# Altium integrated library Microchip PIC18.IntLib: 1897 symbols (part 29 of 110)
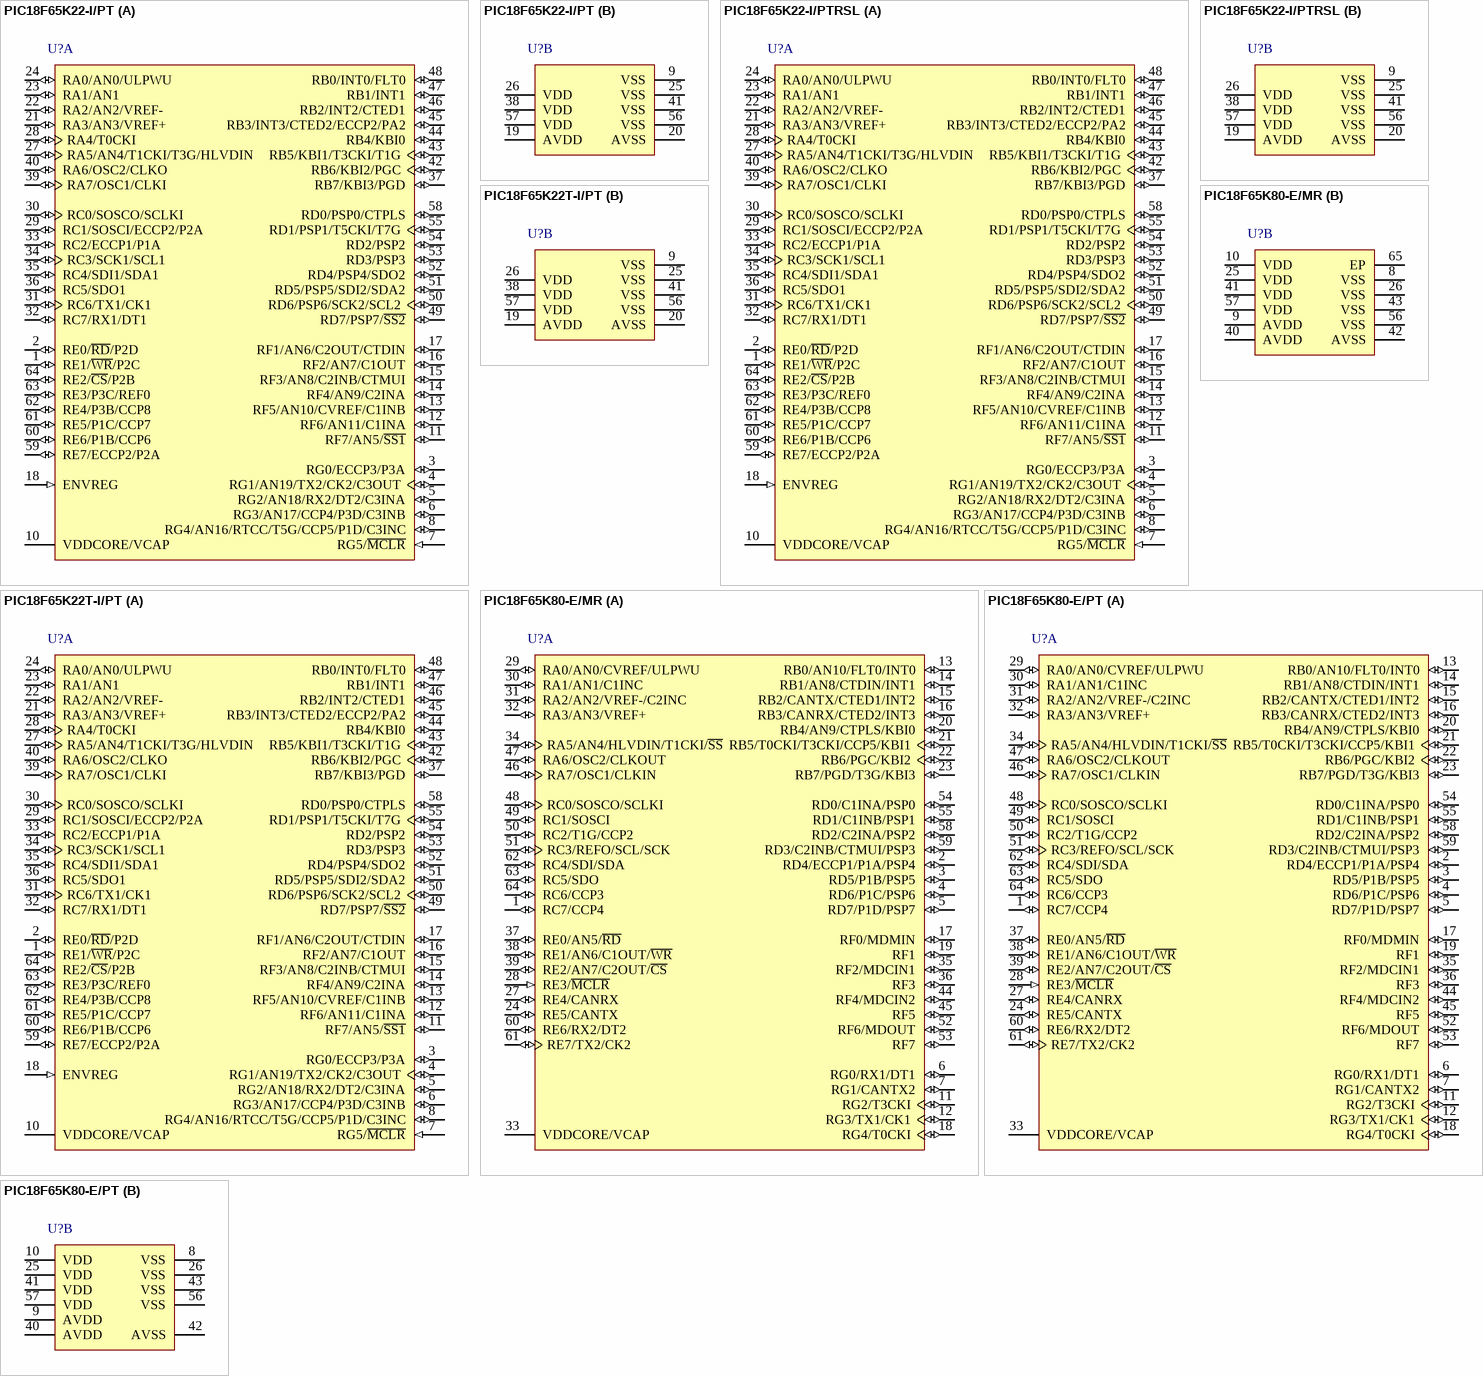
[diagram p237: symbols PIC18F65K22-I/PT to PIC18F65K80-E/PT]

## PIC18F65K80-E/MR
designator U?
Enhanced Flash Microcontroller with ECAN(TM) and nanoWatt XLP Technology, 64 MHz, 54 I/O, -40 to 125 degC, 64-pin QFN (MR64), Tube; Manufacturer: Microchip; PartNumber: PIC18F65K80-E/MR; # of A/D Channels: 11; Digital Communication: 2 -A/E/USART, 0 -MSSP(SPI/I2C), 1 -SSP(SPI/I2C); EEPROM Data Memory (bytes): 1024; I/O Pins: 54; Internal Oscillator: 16 MHz, 31 kHz; Max. CPU Speed MHz: 64; Operation Voltage Range: 1.8V - 5.5V; Program Memory KBytes: 32; Program Memory KWords: 16; RAM: 3648; Timers: 2 - 8-bit, 3 - 16-bit; DatasheetVersion: Rev. F; PackageVersion: C04-213A, 04/2013; PackageReference: QFN-MR64; PackageDescription: 64-Lead Plastic Quad Flat, No Lead Package, Body 9 x 9 mm, Pitch 0.5 mm; Supplier 1: Digi-Key; Supplier Part Number 1: PIC18F65K80-E/MR-ND; Supplier 2: Mouser; Supplier Part Number 2: 579-PIC18F65K80-E/MR; Memory Type: Flash; Packing: TUBE; RoHS: TRUE; Mounting Technology: Surface Mount; ComponentLink1Description: Datasheet; ComponentLink1URL: http://ww1.microchip.com/downloads/en/DeviceDoc/39977f.pdf; ComponentLink2Description: Package Specification; ComponentLink2URL: http://www.microchip.com/stellent/groups/techpub_sg/documents/packagingspec/en012702.pdf; ComponentLink3Description: URL Link1; ComponentLink3URL: Product URL:http://www.microchip.com/datasheet/PIC18F65K80
footprint MCHP-QFN-MR64-7700X7700TP_N (QFN, 64-Leads, Body 9x9mm, Pitch 0.5mm, Thermal Pad 7.7x7.7mm, IPC Medium Density)
footprint MCHP-QFN-MR64-7700X7700TP_L (QFN, 64-Leads, Body 9x9mm, Pitch 0.5mm, Thermal Pad 7.7x7.7mm, IPC High Density)
footprint MCHP-QFN-MR64-7700X7700TP_M (QFN, 64-Leads, Body 9x9mm, Pitch 0.5mm, Thermal Pad 7.7x7.7mm, IPC Low Density)
part A pins: 1 RC7/CCP4 (io), 2 RD4/ECCP1/P1A/PSP4 (io), 3 RD5/P1B/PSP5 (io), 4 RD6/P1C/PSP6 (io), 5 RD7/P1D/PSP7 (io), 6 RG0/RX1/DT1 (io), 7 RG1/CANTX2 (io), 11 RG2/T3CKI (io), 12 RG3/TX1/CK1 (io), 13 RB0/AN10/FLT0/INT0 (io), 14 RB1/AN8/CTDIN/INT1 (io), 15 RB2/CANTX/CTED1/INT2 (io), 16 RB3/CANRX/CTED2/INT3 (io), 17 RF0/MDMIN (io), 18 RG4/T0CKI (io), 19 RF1 (io) "PORTF is a bidirectional I/O port. Digital I/O.", 20 RB4/AN9/CTPLS/KBI0 (io), 21 RB5/T0CKI/T3CKI/CCP5/KBI1 (io), 22 RB6/PGC/KBI2 (io), 23 RB7/PGD/T3G/KBI3 (io), 24 RE5/CANTX (io), 27 RE4/CANRX (io), 28 RE3/~{MCLR} (in), 29 RA0/AN0/CVREF/ULPWU (io), 30 RA1/AN1/C1INC (io), 31 RA2/AN2/VREF-/C2INC (io), 32 RA3/AN3/VREF+ (io), 33 VDDCORE/VCAP (power), 34 RA5/AN4/HLVDIN/T1CKI/~{SS} (io), 35 RF2/MDCIN1 (io), 36 RF3 (io) "PORTF is a bidirectional I/O port. Digital I/O.", 37 RE0/AN5/~{RD} (io), 38 RE1/AN6/C1OUT/~{WR} (io), 39 RE2/AN7/C2OUT/~{CS} (io), 44 RF4/MDCIN2 (io), 45 RF5 (io) "PORTF is a bidirectional I/O port. Digital I/O.", 46 RA7/OSC1/CLKIN (io), 47 RA6/OSC2/CLKOUT (io), 48 RC0/SOSCO/SCLKI (io), 49 RC1/SOSCI (io), 50 RC2/T1G/CCP2 (io), 51 RC3/REFO/SCL/SCK (io), 52 RF6/MDOUT (io), 53 RF7 (io) "PORTF is a bidirectional I/O port. Digital I/O.", 54 RD0/C1INA/PSP0 (io), 55 RD1/C1INB/PSP1 (io), 58 RD2/C2INA/PSP2 (io), 59 RD3/C2INB/CTMUI/PSP3 (io), 60 RE6/RX2/DT2 (io), 61 RE7/TX2/CK2 (io), 62 RC4/SDI/SDA (io), 63 RC5/SDO (io), 64 RC6/CCP3 (io)
part B pins: 8 VSS (power) "Ground reference for logic and I/O pins.", 9 AVDD (power) "Positive supply for analog modules.", 10 VDD (power) "Positive supply for logic and I/O pins.", 25 VDD (power) "Positive supply for logic and I/O pins.", 26 VSS (power) "Ground reference for logic and I/O pins.", 40 AVDD (power) "Positive supply for analog modules.", 41 VDD (power) "Positive supply for logic and I/O pins.", 42 AVSS (power) "Ground reference for analog modules.", 43 VSS (power) "Ground reference for logic and I/O pins.", 56 VSS (power) "Ground reference for logic and I/O pins.", 57 VDD (power) "Positive supply for logic and I/O pins.", 65 EP (power)

## PIC18F65K80-E/PT
designator U?
Enhanced Flash Microcontroller with ECAN(TM) and nanoWatt XLP Technology, 64 MHz, 54 I/O, -40 to 125 degC, 64-pin TQFP (PT64), Tray; Manufacturer: Microchip; PartNumber: PIC18F65K80-E/PT; # of A/D Channels: 11; Digital Communication: 2 -A/E/USART, 0 -MSSP(SPI/I2C), 1 -SSP(SPI/I2C); EEPROM Data Memory (bytes): 1024; I/O Pins: 54; Internal Oscillator: 16 MHz, 31 kHz; Max. CPU Speed MHz: 64; Operation Voltage Range: 1.8V - 5V; Program Memory KBytes: 32; Program Memory KWords: 16; RAM: 3648; Timers: 2 - 8-bit, 3 - 16-bit; DatasheetVersion: Rev. F; PackageVersion: C04-085B, 12/2012; PackageReference: TQFP-PT64; PackageDescription: 64-Lead Plastic Thin Quad FlatPack, 10 x 10 mm Body, 0.5 mm Pitch; Supplier 1: Digi-Key; Supplier Part Number 1: PIC18F65K80-E/PT-ND; Supplier 2: Mouser; Supplier Part Number 2: 579-PIC18F65K80-E/PT; Memory Type: Flash; Packing: TRAY; RoHS: TRUE; Mounting Technology: Surface Mount; ComponentLink1Description: Datasheet; ComponentLink1URL: http://ww1.microchip.com/downloads/en/DeviceDoc/39977f.pdf; ComponentLink2Description: Package Specification; ComponentLink2URL: http://www.microchip.com/stellent/groups/techpub_sg/documents/packagingspec/en012702.pdf; ComponentLink3Description: URL Link1; ComponentLink3URL: Product URL:http://www.microchip.com/datasheet/PIC18F65K80
footprint MCHP-TQFP-PT64_N (TQFP, 64-Leads, Body 10x10mm, Pitch 0.5mm, IPC Medium Density)
footprint MCHP-TQFP-PT64_L (TQFP, 64-Leads, Body 10x10mm, Pitch 0.5mm, IPC High Density)
footprint MCHP-TQFP-PT64_M (TQFP, 64-Leads, Body 10x10mm, Pitch 0.5mm, IPC Low Density)
part A pins: 1 RC7/CCP4 (io), 2 RD4/ECCP1/P1A/PSP4 (io), 3 RD5/P1B/PSP5 (io), 4 RD6/P1C/PSP6 (io), 5 RD7/P1D/PSP7 (io), 6 RG0/RX1/DT1 (io), 7 RG1/CANTX2 (io), 11 RG2/T3CKI (io), 12 RG3/TX1/CK1 (io), 13 RB0/AN10/FLT0/INT0 (io), 14 RB1/AN8/CTDIN/INT1 (io), 15 RB2/CANTX/CTED1/INT2 (io), 16 RB3/CANRX/CTED2/INT3 (io), 17 RF0/MDMIN (io), 18 RG4/T0CKI (io), 19 RF1 (io) "PORTF is a bidirectional I/O port. Digital I/O.", 20 RB4/AN9/CTPLS/KBI0 (io), 21 RB5/T0CKI/T3CKI/CCP5/KBI1 (io), 22 RB6/PGC/KBI2 (io), 23 RB7/PGD/T3G/KBI3 (io), 24 RE5/CANTX (io), 27 RE4/CANRX (io), 28 RE3/~{MCLR} (in), 29 RA0/AN0/CVREF/ULPWU (io), 30 RA1/AN1/C1INC (io), 31 RA2/AN2/VREF-/C2INC (io), 32 RA3/AN3/VREF+ (io), 33 VDDCORE/VCAP (power), 34 RA5/AN4/HLVDIN/T1CKI/~{SS} (io), 35 RF2/MDCIN1 (io), 36 RF3 (io) "PORTF is a bidirectional I/O port. Digital I/O.", 37 RE0/AN5/~{RD} (io), 38 RE1/AN6/C1OUT/~{WR} (io), 39 RE2/AN7/C2OUT/~{CS} (io), 44 RF4/MDCIN2 (io), 45 RF5 (io) "PORTF is a bidirectional I/O port. Digital I/O.", 46 RA7/OSC1/CLKIN (io), 47 RA6/OSC2/CLKOUT (io), 48 RC0/SOSCO/SCLKI (io), 49 RC1/SOSCI (io), 50 RC2/T1G/CCP2 (io), 51 RC3/REFO/SCL/SCK (io), 52 RF6/MDOUT (io), 53 RF7 (io) "PORTF is a bidirectional I/O port. Digital I/O.", 54 RD0/C1INA/PSP0 (io), 55 RD1/C1INB/PSP1 (io), 58 RD2/C2INA/PSP2 (io), 59 RD3/C2INB/CTMUI/PSP3 (io), 60 RE6/RX2/DT2 (io), 61 RE7/TX2/CK2 (io), 62 RC4/SDI/SDA (io), 63 RC5/SDO (io), 64 RC6/CCP3 (io)
part B pins: 8 VSS (power) "Ground reference for logic and I/O pins.", 9 AVDD (power) "Positive supply for analog modules.", 10 VDD (power) "Positive supply for logic and I/O pins.", 25 VDD (power) "Positive supply for logic and I/O pins.", 26 VSS (power) "Ground reference for logic and I/O pins.", 40 AVDD (power) "Positive supply for analog modules.", 41 VDD (power) "Positive supply for logic and I/O pins.", 42 AVSS (power) "Ground reference for analog modules.", 43 VSS (power) "Ground reference for logic and I/O pins.", 56 VSS (power) "Ground reference for logic and I/O pins.", 57 VDD (power) "Positive supply for logic and I/O pins."

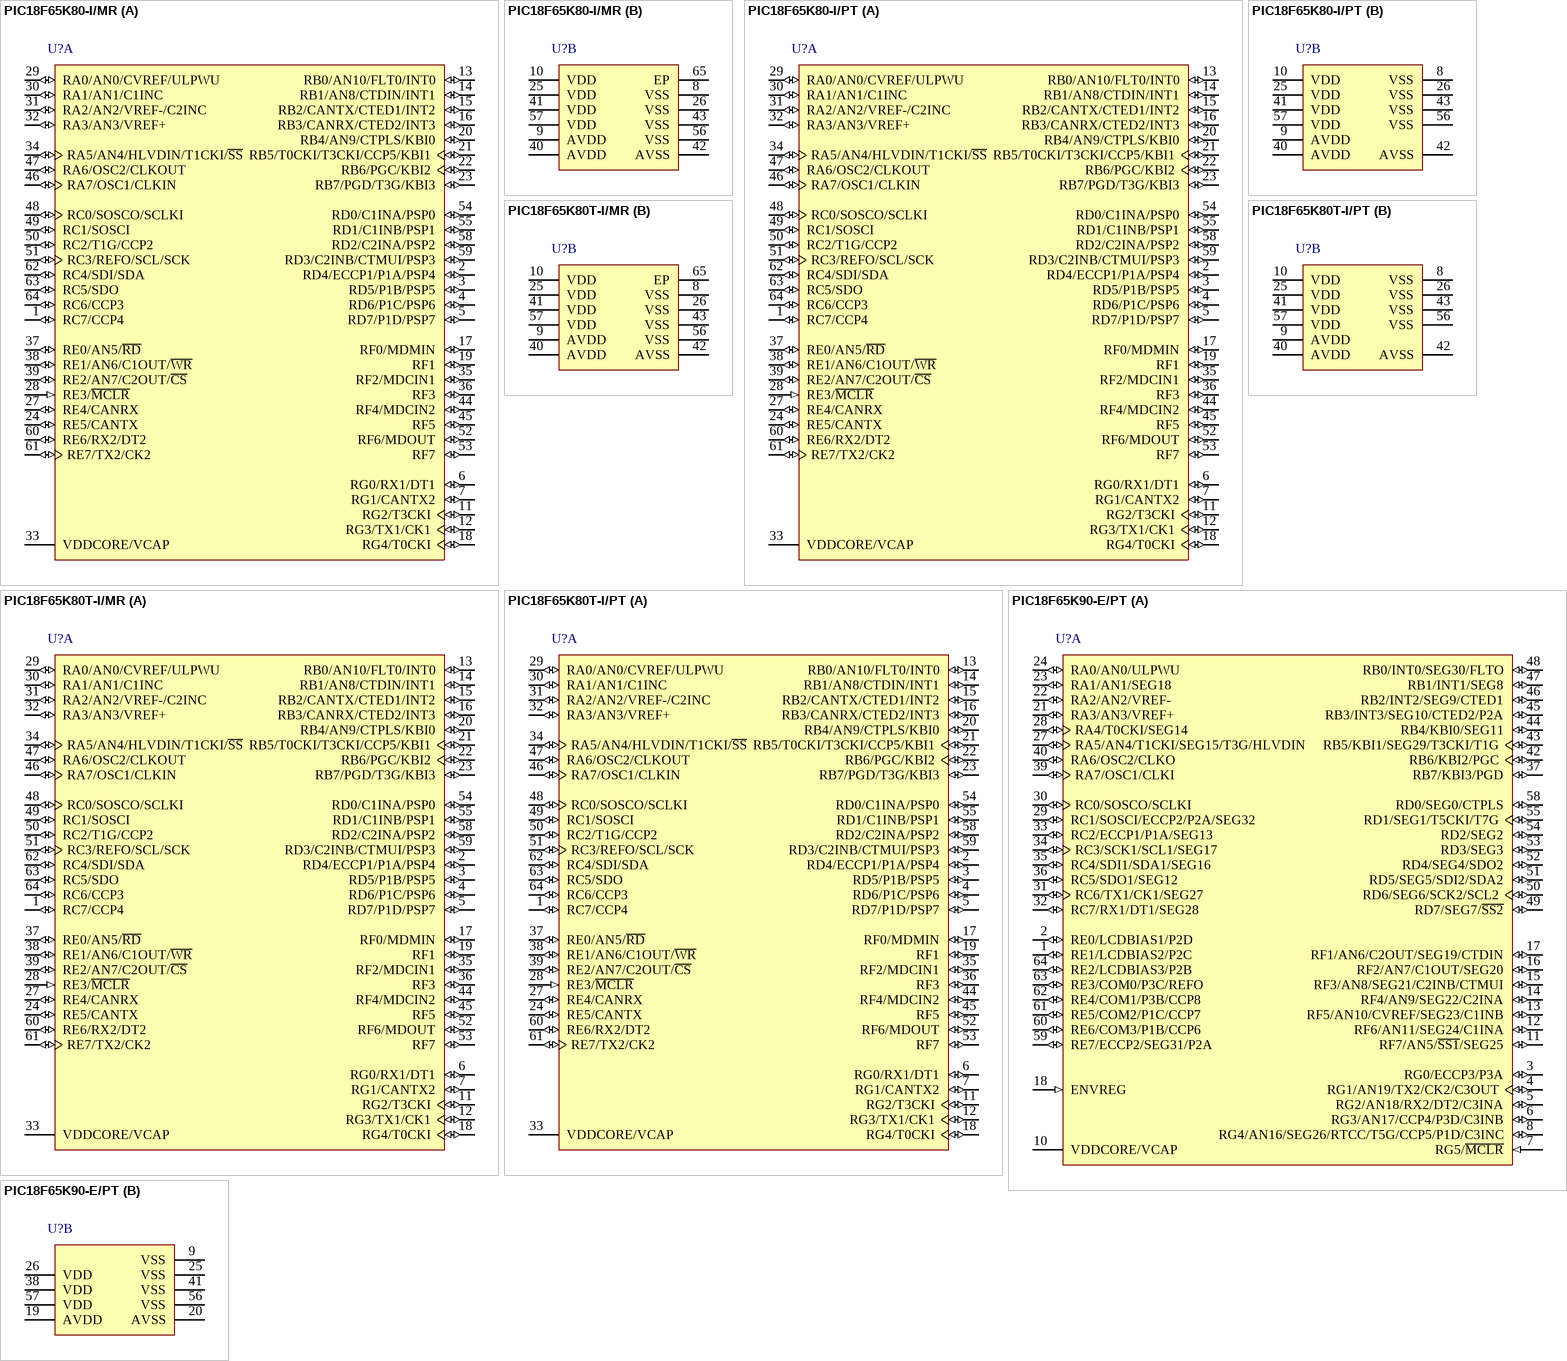
[diagram p46: symbols PIC18F65K80-I/MR to PIC18F65K90-E/PT]

## PIC18F65K80-I/MR
designator U?
Enhanced Flash Microcontroller with ECAN(TM) and nanoWatt XLP Technology, 64 MHz, 54 I/O, -40 to 85 degC, 64-pin QFN (MR64), Tube; Manufacturer: Microchip; PartNumber: PIC18F65K80-I/MR; # of A/D Channels: 11; Digital Communication: 2 -A/E/USART, 0 -MSSP(SPI/I2C), 1 -SSP(SPI/I2C); EEPROM Data Memory (bytes): 1024; I/O Pins: 54; Internal Oscillator: 16 MHz, 31 kHz; Max. CPU Speed MHz: 64; Operation Voltage Range: 1.8V - 5.5V; Program Memory KBytes: 32; Program Memory KWords: 16; RAM: 3648; Timers: 2 - 8-bit, 3 - 16-bit; DatasheetVersion: Rev. F; PackageVersion: C04-213A, 04/2013; PackageReference: QFN-MR64; PackageDescription: 64-Lead Plastic Quad Flat, No Lead Package, Body 9 x 9 mm, Pitch 0.5 mm; Supplier 1: Digi-Key; Supplier Part Number 1: PIC18F65K80-I/MR-ND; Supplier 2: Farnell; Supplier Part Number 2: 1823174; Supplier 3: Mouser; Supplier Part Number 3: 579-PIC18F65K80-I/MR; Memory Type: Flash; Packing: TUBE; RoHS: TRUE; Mounting Technology: Surface Mount; ComponentLink1Description: Datasheet; ComponentLink1URL: http://ww1.microchip.com/downloads/en/DeviceDoc/39977f.pdf; ComponentLink2Description: Package Specification; ComponentLink2URL: http://www.microchip.com/stellent/groups/techpub_sg/documents/packagingspec/en012702.pdf; ComponentLink3Description: URL Link1; ComponentLink3URL: Product URL:http://www.microchip.com/datasheet/PIC18F65K80
footprint MCHP-QFN-MR64-7700X7700TP_N (QFN, 64-Leads, Body 9x9mm, Pitch 0.5mm, Thermal Pad 7.7x7.7mm, IPC Medium Density)
footprint MCHP-QFN-MR64-7700X7700TP_L (QFN, 64-Leads, Body 9x9mm, Pitch 0.5mm, Thermal Pad 7.7x7.7mm, IPC High Density)
footprint MCHP-QFN-MR64-7700X7700TP_M (QFN, 64-Leads, Body 9x9mm, Pitch 0.5mm, Thermal Pad 7.7x7.7mm, IPC Low Density)
part A pins: 1 RC7/CCP4 (io), 2 RD4/ECCP1/P1A/PSP4 (io), 3 RD5/P1B/PSP5 (io), 4 RD6/P1C/PSP6 (io), 5 RD7/P1D/PSP7 (io), 6 RG0/RX1/DT1 (io), 7 RG1/CANTX2 (io), 11 RG2/T3CKI (io), 12 RG3/TX1/CK1 (io), 13 RB0/AN10/FLT0/INT0 (io), 14 RB1/AN8/CTDIN/INT1 (io), 15 RB2/CANTX/CTED1/INT2 (io), 16 RB3/CANRX/CTED2/INT3 (io), 17 RF0/MDMIN (io), 18 RG4/T0CKI (io), 19 RF1 (io) "PORTF is a bidirectional I/O port. Digital I/O.", 20 RB4/AN9/CTPLS/KBI0 (io), 21 RB5/T0CKI/T3CKI/CCP5/KBI1 (io), 22 RB6/PGC/KBI2 (io), 23 RB7/PGD/T3G/KBI3 (io), 24 RE5/CANTX (io), 27 RE4/CANRX (io), 28 RE3/~{MCLR} (in), 29 RA0/AN0/CVREF/ULPWU (io), 30 RA1/AN1/C1INC (io), 31 RA2/AN2/VREF-/C2INC (io), 32 RA3/AN3/VREF+ (io), 33 VDDCORE/VCAP (power), 34 RA5/AN4/HLVDIN/T1CKI/~{SS} (io), 35 RF2/MDCIN1 (io), 36 RF3 (io) "PORTF is a bidirectional I/O port. Digital I/O.", 37 RE0/AN5/~{RD} (io), 38 RE1/AN6/C1OUT/~{WR} (io), 39 RE2/AN7/C2OUT/~{CS} (io), 44 RF4/MDCIN2 (io), 45 RF5 (io) "PORTF is a bidirectional I/O port. Digital I/O.", 46 RA7/OSC1/CLKIN (io), 47 RA6/OSC2/CLKOUT (io), 48 RC0/SOSCO/SCLKI (io), 49 RC1/SOSCI (io), 50 RC2/T1G/CCP2 (io), 51 RC3/REFO/SCL/SCK (io), 52 RF6/MDOUT (io), 53 RF7 (io) "PORTF is a bidirectional I/O port. Digital I/O.", 54 RD0/C1INA/PSP0 (io), 55 RD1/C1INB/PSP1 (io), 58 RD2/C2INA/PSP2 (io), 59 RD3/C2INB/CTMUI/PSP3 (io), 60 RE6/RX2/DT2 (io), 61 RE7/TX2/CK2 (io), 62 RC4/SDI/SDA (io), 63 RC5/SDO (io), 64 RC6/CCP3 (io)
part B pins: 8 VSS (power) "Ground reference for logic and I/O pins.", 9 AVDD (power) "Positive supply for analog modules.", 10 VDD (power) "Positive supply for logic and I/O pins.", 25 VDD (power) "Positive supply for logic and I/O pins.", 26 VSS (power) "Ground reference for logic and I/O pins.", 40 AVDD (power) "Positive supply for analog modules.", 41 VDD (power) "Positive supply for logic and I/O pins.", 42 AVSS (power) "Ground reference for analog modules.", 43 VSS (power) "Ground reference for logic and I/O pins.", 56 VSS (power) "Ground reference for logic and I/O pins.", 57 VDD (power) "Positive supply for logic and I/O pins.", 65 EP (power)

## PIC18F65K80-I/PT
designator U?
Enhanced Flash Microcontroller with ECAN(TM) and nanoWatt XLP Technology, 64 MHz, 54 I/O, -40 to 85 degC, 64-pin TQFP (PT64), Tray; Manufacturer: Microchip; PartNumber: PIC18F65K80-I/PT; # of A/D Channels: 11; Digital Communication: 2 -A/E/USART, 0 -MSSP(SPI/I2C), 1 -SSP(SPI/I2C); EEPROM Data Memory (bytes): 1024; I/O Pins: 54; Internal Oscillator: 16 MHz, 31 kHz; Max. CPU Speed MHz: 64; Operation Voltage Range: 1.8V - 5.5V; Program Memory KBytes: 32; Program Memory KWords: 16; RAM: 3648; Timers: 2 - 8-bit, 3 - 16-bit; DatasheetVersion: Rev. F; PackageVersion: C04-085B, 12/2012; PackageReference: TQFP-PT64; PackageDescription: 64-Lead Plastic Thin Quad FlatPack, 10 x 10 mm Body, 0.5 mm Pitch; Supplier 1: Digi-Key; Supplier Part Number 1: PIC18F65K80-I/PT-ND; Supplier 2: Farnell; Supplier Part Number 2: 1823175; Supplier 3: Newark; Supplier Part Number 3: 76R6711; Supplier 4: Newark; Supplier Part Number 4: 82T9600; Supplier 5: Mouser; Supplier Part Number 5: 579-PIC18F65K80-I/PT; Memory Type: Flash; Packing: TRAY; RoHS: TRUE; Mounting Technology: Surface Mount; ComponentLink1Description: Datasheet; ComponentLink1URL: http://ww1.microchip.com/downloads/en/DeviceDoc/39977f.pdf; ComponentLink2Description: Package Specification; ComponentLink2URL: http://www.microchip.com/stellent/groups/techpub_sg/documents/packagingspec/en012702.pdf; ComponentLink3Description: URL Link1; ComponentLink3URL: Product URL:http://www.microchip.com/datasheet/PIC18F65K80
footprint MCHP-TQFP-PT64_N (TQFP, 64-Leads, Body 10x10mm, Pitch 0.5mm, IPC Medium Density)
footprint MCHP-TQFP-PT64_L (TQFP, 64-Leads, Body 10x10mm, Pitch 0.5mm, IPC High Density)
footprint MCHP-TQFP-PT64_M (TQFP, 64-Leads, Body 10x10mm, Pitch 0.5mm, IPC Low Density)
part A pins: 1 RC7/CCP4 (io), 2 RD4/ECCP1/P1A/PSP4 (io), 3 RD5/P1B/PSP5 (io), 4 RD6/P1C/PSP6 (io), 5 RD7/P1D/PSP7 (io), 6 RG0/RX1/DT1 (io), 7 RG1/CANTX2 (io), 11 RG2/T3CKI (io), 12 RG3/TX1/CK1 (io), 13 RB0/AN10/FLT0/INT0 (io), 14 RB1/AN8/CTDIN/INT1 (io), 15 RB2/CANTX/CTED1/INT2 (io), 16 RB3/CANRX/CTED2/INT3 (io), 17 RF0/MDMIN (io), 18 RG4/T0CKI (io), 19 RF1 (io) "PORTF is a bidirectional I/O port. Digital I/O.", 20 RB4/AN9/CTPLS/KBI0 (io), 21 RB5/T0CKI/T3CKI/CCP5/KBI1 (io), 22 RB6/PGC/KBI2 (io), 23 RB7/PGD/T3G/KBI3 (io), 24 RE5/CANTX (io), 27 RE4/CANRX (io), 28 RE3/~{MCLR} (in), 29 RA0/AN0/CVREF/ULPWU (io), 30 RA1/AN1/C1INC (io), 31 RA2/AN2/VREF-/C2INC (io), 32 RA3/AN3/VREF+ (io), 33 VDDCORE/VCAP (power), 34 RA5/AN4/HLVDIN/T1CKI/~{SS} (io), 35 RF2/MDCIN1 (io), 36 RF3 (io) "PORTF is a bidirectional I/O port. Digital I/O.", 37 RE0/AN5/~{RD} (io), 38 RE1/AN6/C1OUT/~{WR} (io), 39 RE2/AN7/C2OUT/~{CS} (io), 44 RF4/MDCIN2 (io), 45 RF5 (io) "PORTF is a bidirectional I/O port. Digital I/O.", 46 RA7/OSC1/CLKIN (io), 47 RA6/OSC2/CLKOUT (io), 48 RC0/SOSCO/SCLKI (io), 49 RC1/SOSCI (io), 50 RC2/T1G/CCP2 (io), 51 RC3/REFO/SCL/SCK (io), 52 RF6/MDOUT (io), 53 RF7 (io) "PORTF is a bidirectional I/O port. Digital I/O.", 54 RD0/C1INA/PSP0 (io), 55 RD1/C1INB/PSP1 (io), 58 RD2/C2INA/PSP2 (io), 59 RD3/C2INB/CTMUI/PSP3 (io), 60 RE6/RX2/DT2 (io), 61 RE7/TX2/CK2 (io), 62 RC4/SDI/SDA (io), 63 RC5/SDO (io), 64 RC6/CCP3 (io)
part B pins: 8 VSS (power) "Ground reference for logic and I/O pins.", 9 AVDD (power) "Positive supply for analog modules.", 10 VDD (power) "Positive supply for logic and I/O pins.", 25 VDD (power) "Positive supply for logic and I/O pins.", 26 VSS (power) "Ground reference for logic and I/O pins.", 40 AVDD (power) "Positive supply for analog modules.", 41 VDD (power) "Positive supply for logic and I/O pins.", 42 AVSS (power) "Ground reference for analog modules.", 43 VSS (power) "Ground reference for logic and I/O pins.", 56 VSS (power) "Ground reference for logic and I/O pins.", 57 VDD (power) "Positive supply for logic and I/O pins."

## PIC18F65K80T-I/MR
designator U?
Enhanced Flash Microcontroller with ECAN(TM) and nanoWatt XLP Technology, 64 MHz, 54 I/O, -40 to 85 degC, 64-pin QFN (MR64), Tape and Reel; Manufacturer: Microchip; PartNumber: PIC18F65K80T-I/MR; # of A/D Channels: 11; Digital Communication: 2 -A/E/USART, 0 -MSSP(SPI/I2C), 1 -SSP(SPI/I2C); EEPROM Data Memory (bytes): 1024; I/O Pins: 54; Internal Oscillator: 16 MHz, 31 kHz; Max. CPU Speed MHz: 64; Operation Voltage Range: 1.8V - 5.5V; Packing: T/R; Program Memory KBytes: 32; Program Memory KWords: 16; RAM: 3648; Timers: 2 - 8-bit, 3 - 16-bit; DatasheetVersion: Rev. F; PackageVersion: C04-213A, 04/2013; PackageReference: QFN-MR64; PackageDescription: 64-Lead Plastic Quad Flat, No Lead Package, Body 9 x 9 mm, Pitch 0.5 mm; Supplier 1: Digi-Key; Supplier Part Number 1: PIC18F65K80T-I/MR-ND; Supplier 2: Mouser; Supplier Part Number 2: 579-PIC18F65K80TI/MR; Memory Type: Flash; RoHS: TRUE; Mounting Technology: Surface Mount; ComponentLink1Description: Datasheet; ComponentLink1URL: http://ww1.microchip.com/downloads/en/DeviceDoc/39977f.pdf; ComponentLink2Description: Package Specification; ComponentLink2URL: http://www.microchip.com/stellent/groups/techpub_sg/documents/packagingspec/en012702.pdf; ComponentLink3Description: URL Link1; ComponentLink3URL: Product URL:http://www.microchip.com/datasheet/PIC18F65K80
footprint MCHP-QFN-MR64-7700X7700TP_N (QFN, 64-Leads, Body 9x9mm, Pitch 0.5mm, Thermal Pad 7.7x7.7mm, IPC Medium Density)
footprint MCHP-QFN-MR64-7700X7700TP_L (QFN, 64-Leads, Body 9x9mm, Pitch 0.5mm, Thermal Pad 7.7x7.7mm, IPC High Density)
footprint MCHP-QFN-MR64-7700X7700TP_M (QFN, 64-Leads, Body 9x9mm, Pitch 0.5mm, Thermal Pad 7.7x7.7mm, IPC Low Density)
part A pins: 1 RC7/CCP4 (io), 2 RD4/ECCP1/P1A/PSP4 (io), 3 RD5/P1B/PSP5 (io), 4 RD6/P1C/PSP6 (io), 5 RD7/P1D/PSP7 (io), 6 RG0/RX1/DT1 (io), 7 RG1/CANTX2 (io), 11 RG2/T3CKI (io), 12 RG3/TX1/CK1 (io), 13 RB0/AN10/FLT0/INT0 (io), 14 RB1/AN8/CTDIN/INT1 (io), 15 RB2/CANTX/CTED1/INT2 (io), 16 RB3/CANRX/CTED2/INT3 (io), 17 RF0/MDMIN (io), 18 RG4/T0CKI (io), 19 RF1 (io) "PORTF is a bidirectional I/O port. Digital I/O.", 20 RB4/AN9/CTPLS/KBI0 (io), 21 RB5/T0CKI/T3CKI/CCP5/KBI1 (io), 22 RB6/PGC/KBI2 (io), 23 RB7/PGD/T3G/KBI3 (io), 24 RE5/CANTX (io), 27 RE4/CANRX (io), 28 RE3/~{MCLR} (in), 29 RA0/AN0/CVREF/ULPWU (io), 30 RA1/AN1/C1INC (io), 31 RA2/AN2/VREF-/C2INC (io), 32 RA3/AN3/VREF+ (io), 33 VDDCORE/VCAP (power), 34 RA5/AN4/HLVDIN/T1CKI/~{SS} (io), 35 RF2/MDCIN1 (io), 36 RF3 (io) "PORTF is a bidirectional I/O port. Digital I/O.", 37 RE0/AN5/~{RD} (io), 38 RE1/AN6/C1OUT/~{WR} (io), 39 RE2/AN7/C2OUT/~{CS} (io), 44 RF4/MDCIN2 (io), 45 RF5 (io) "PORTF is a bidirectional I/O port. Digital I/O.", 46 RA7/OSC1/CLKIN (io), 47 RA6/OSC2/CLKOUT (io), 48 RC0/SOSCO/SCLKI (io), 49 RC1/SOSCI (io), 50 RC2/T1G/CCP2 (io), 51 RC3/REFO/SCL/SCK (io), 52 RF6/MDOUT (io), 53 RF7 (io) "PORTF is a bidirectional I/O port. Digital I/O.", 54 RD0/C1INA/PSP0 (io), 55 RD1/C1INB/PSP1 (io), 58 RD2/C2INA/PSP2 (io), 59 RD3/C2INB/CTMUI/PSP3 (io), 60 RE6/RX2/DT2 (io), 61 RE7/TX2/CK2 (io), 62 RC4/SDI/SDA (io), 63 RC5/SDO (io), 64 RC6/CCP3 (io)
part B pins: 8 VSS (power) "Ground reference for logic and I/O pins.", 9 AVDD (power) "Positive supply for analog modules.", 10 VDD (power) "Positive supply for logic and I/O pins.", 25 VDD (power) "Positive supply for logic and I/O pins.", 26 VSS (power) "Ground reference for logic and I/O pins.", 40 AVDD (power) "Positive supply for analog modules.", 41 VDD (power) "Positive supply for logic and I/O pins.", 42 AVSS (power) "Ground reference for analog modules.", 43 VSS (power) "Ground reference for logic and I/O pins.", 56 VSS (power) "Ground reference for logic and I/O pins.", 57 VDD (power) "Positive supply for logic and I/O pins.", 65 EP (power)

## PIC18F65K80T-I/PT
designator U?
Enhanced Flash Microcontroller with ECAN(TM) and nanoWatt XLP Technology, 64 MHz, 54 I/O, -40 to 85 degC, 64-pin TQFP (PT64), Tape and Reel; Manufacturer: Microchip; PartNumber: PIC18F65K80T-I/PT; # of A/D Channels: 11; Digital Communication: 2 -A/E/USART, 0 -MSSP(SPI/I2C), 1 -SSP(SPI/I2C); EEPROM Data Memory (bytes): 1024; I/O Pins: 54; Internal Oscillator: 16 MHz, 31 kHz; Max. CPU Speed MHz: 64; Operation Voltage Range: 1.8V - 5.5V; Packing: T/R; Program Memory KBytes: 32; Program Memory KWords: 16; RAM: 3648; Timers: 2 - 8-bit, 3 - 16-bit; DatasheetVersion: Rev. F; PackageVersion: C04-085B, 12/2012; PackageReference: TQFP-PT64; PackageDescription: 64-Lead Plastic Thin Quad FlatPack, 10 x 10 mm Body, 0.5 mm Pitch; Supplier 1: Digi-Key; Supplier Part Number 1: PIC18F65K80T-I/PT-ND; Supplier 2: Mouser; Supplier Part Number 2: 579-PIC18F65K80TI/PT; Memory Type: Flash; RoHS: TRUE; Mounting Technology: Surface Mount; ComponentLink1Description: Datasheet; ComponentLink1URL: http://ww1.microchip.com/downloads/en/DeviceDoc/39977f.pdf; ComponentLink2Description: Package Specification; ComponentLink2URL: http://www.microchip.com/stellent/groups/techpub_sg/documents/packagingspec/en012702.pdf; ComponentLink3Description: URL Link1; ComponentLink3URL: Product URL:http://www.microchip.com/datasheet/PIC18F65K80
footprint MCHP-TQFP-PT64_N (TQFP, 64-Leads, Body 10x10mm, Pitch 0.5mm, IPC Medium Density)
footprint MCHP-TQFP-PT64_L (TQFP, 64-Leads, Body 10x10mm, Pitch 0.5mm, IPC High Density)
footprint MCHP-TQFP-PT64_M (TQFP, 64-Leads, Body 10x10mm, Pitch 0.5mm, IPC Low Density)
part A pins: 1 RC7/CCP4 (io), 2 RD4/ECCP1/P1A/PSP4 (io), 3 RD5/P1B/PSP5 (io), 4 RD6/P1C/PSP6 (io), 5 RD7/P1D/PSP7 (io), 6 RG0/RX1/DT1 (io), 7 RG1/CANTX2 (io), 11 RG2/T3CKI (io), 12 RG3/TX1/CK1 (io), 13 RB0/AN10/FLT0/INT0 (io), 14 RB1/AN8/CTDIN/INT1 (io), 15 RB2/CANTX/CTED1/INT2 (io), 16 RB3/CANRX/CTED2/INT3 (io), 17 RF0/MDMIN (io), 18 RG4/T0CKI (io), 19 RF1 (io) "PORTF is a bidirectional I/O port. Digital I/O.", 20 RB4/AN9/CTPLS/KBI0 (io), 21 RB5/T0CKI/T3CKI/CCP5/KBI1 (io), 22 RB6/PGC/KBI2 (io), 23 RB7/PGD/T3G/KBI3 (io), 24 RE5/CANTX (io), 27 RE4/CANRX (io), 28 RE3/~{MCLR} (in), 29 RA0/AN0/CVREF/ULPWU (io), 30 RA1/AN1/C1INC (io), 31 RA2/AN2/VREF-/C2INC (io), 32 RA3/AN3/VREF+ (io), 33 VDDCORE/VCAP (power), 34 RA5/AN4/HLVDIN/T1CKI/~{SS} (io), 35 RF2/MDCIN1 (io), 36 RF3 (io) "PORTF is a bidirectional I/O port. Digital I/O.", 37 RE0/AN5/~{RD} (io), 38 RE1/AN6/C1OUT/~{WR} (io), 39 RE2/AN7/C2OUT/~{CS} (io), 44 RF4/MDCIN2 (io), 45 RF5 (io) "PORTF is a bidirectional I/O port. Digital I/O.", 46 RA7/OSC1/CLKIN (io), 47 RA6/OSC2/CLKOUT (io), 48 RC0/SOSCO/SCLKI (io), 49 RC1/SOSCI (io), 50 RC2/T1G/CCP2 (io), 51 RC3/REFO/SCL/SCK (io), 52 RF6/MDOUT (io), 53 RF7 (io) "PORTF is a bidirectional I/O port. Digital I/O.", 54 RD0/C1INA/PSP0 (io), 55 RD1/C1INB/PSP1 (io), 58 RD2/C2INA/PSP2 (io), 59 RD3/C2INB/CTMUI/PSP3 (io), 60 RE6/RX2/DT2 (io), 61 RE7/TX2/CK2 (io), 62 RC4/SDI/SDA (io), 63 RC5/SDO (io), 64 RC6/CCP3 (io)
part B pins: 8 VSS (power) "Ground reference for logic and I/O pins.", 9 AVDD (power) "Positive supply for analog modules.", 10 VDD (power) "Positive supply for logic and I/O pins.", 25 VDD (power) "Positive supply for logic and I/O pins.", 26 VSS (power) "Ground reference for logic and I/O pins.", 40 AVDD (power) "Positive supply for analog modules.", 41 VDD (power) "Positive supply for logic and I/O pins.", 42 AVSS (power) "Ground reference for analog modules.", 43 VSS (power) "Ground reference for logic and I/O pins.", 56 VSS (power) "Ground reference for logic and I/O pins.", 57 VDD (power) "Positive supply for logic and I/O pins."

## PIC18F65K90-E/PT
designator U?
High-Performance Microcontroller with LCD Driver and nanoWatt XLP Technology, 64 MHz, 53 I/O, -40 to 125 degC, 64-pin TQFP (PT64), Tray; Manufacturer: Microchip; PartNumber: PIC18F65K90-E/PT; # of A/D Channels: 16; Digital Communication: 0 -UART, 2 -A/E/USART, 2 -MSSP(SPI/I2C); EEPROM Data Memory (bytes): 1024; I/O Pins: 53; Internal Oscillator: 16 MHz, 31 kHz; Max. CPU Speed MHz: 64; Memory Type: Flash; Operation Voltage Range: 1.8V - 5.5V; Program Memory KBytes: 32; RAM: 2048; Timers: 4 - 8-bit, 4 - 16-bit; DatasheetVersion: Rev. D; PackageVersion: C04-085B, 12/2012; PackageReference: TQFP-PT64; PackageDescription: 64-Lead Plastic Thin Quad FlatPack, 10 x 10 mm Body, 0.5 mm Pitch; Supplier 1: Digi-Key; Supplier Part Number 1: PIC18F65K90-E/PT-ND; Supplier 2: Mouser; Supplier Part Number 2: 579-PIC18F65K90-E/PT; Packing: TRAY; Program Memory KWords: 16; RoHS: TRUE; Mounting Technology: Surface Mount; ComponentLink1Description: Datasheet; ComponentLink1URL: http://ww1.microchip.com/downloads/en/DeviceDoc/39957d.pdf; ComponentLink2Description: Package Specification; ComponentLink2URL: http://www.microchip.com/stellent/groups/techpub_sg/documents/packagingspec/en012702.pdf; ComponentLink3Description: URL Link1; ComponentLink3URL: Product URL:http://www.microchip.com/datasheet/PIC18F65K90
footprint MCHP-TQFP-PT64_N (TQFP, 64-Leads, Body 10x10mm, Pitch 0.5mm, IPC Medium Density)
footprint MCHP-TQFP-PT64_L (TQFP, 64-Leads, Body 10x10mm, Pitch 0.5mm, IPC High Density)
footprint MCHP-TQFP-PT64_M (TQFP, 64-Leads, Body 10x10mm, Pitch 0.5mm, IPC Low Density)
part A pins: 1 RE1/LCDBIAS2/P2C (io), 2 RE0/LCDBIAS1/P2D (io), 3 RG0/ECCP3/P3A (io), 4 RG1/AN19/TX2/CK2/C3OUT (io), 5 RG2/AN18/RX2/DT2/C3INA (io), 6 RG3/AN17/CCP4/P3D/C3INB (io), 7 RG5/~{MCLR} (in), 8 RG4/AN16/SEG26/RTCC/T5G/CCP5/P1D/C3INC (io), 10 VDDCORE/VCAP (power), 11 RF7/AN5/~{SS1}/SEG25 (io), 12 RF6/AN11/SEG24/C1INA (io), 13 RF5/AN10/CVREF/SEG23/C1INB (io), 14 RF4/AN9/SEG22/C2INA (io), 15 RF3/AN8/SEG21/C2INB/CTMUI (io), 16 RF2/AN7/C1OUT/SEG20 (io), 17 RF1/AN6/C2OUT/SEG19/CTDIN (io), 18 ENVREG (in) "Enable for on-chip voltage regulator.", 21 RA3/AN3/VREF+ (io), 22 RA2/AN2/VREF- (io), 23 RA1/AN1/SEG18 (io), 24 RA0/AN0/ULPWU (io), 27 RA5/AN4/T1CKI/SEG15/T3G/HLVDIN (io), 28 RA4/T0CKI/SEG14 (io), 29 RC1/SOSCI/ECCP2/P2A/SEG32 (io), 30 RC0/SOSCO/SCLKI (io), 31 RC6/TX1/CK1/SEG27 (io), 32 RC7/RX1/DT1/SEG28 (io), 33 RC2/ECCP1/P1A/SEG13 (io), 34 RC3/SCK1/SCL1/SEG17 (io), 35 RC4/SDI1/SDA1/SEG16 (io), 36 RC5/SDO1/SEG12 (io), 37 RB7/KBI3/PGD (io), 39 RA7/OSC1/CLKI (io), 40 RA6/OSC2/CLKO (io), 42 RB6/KBI2/PGC (io), 43 RB5/KBI1/SEG29/T3CKI/T1G (io), 44 RB4/KBI0/SEG11 (io), 45 RB3/INT3/SEG10/CTED2/P2A (io), 46 RB2/INT2/SEG9/CTED1 (io), 47 RB1/INT1/SEG8 (io), 48 RB0/INT0/SEG30/FLTO (io), 49 RD7/SEG7/~{SS2} (io), 50 RD6/SEG6/SCK2/SCL2 (io), 51 RD5/SEG5/SDI2/SDA2 (io), 52 RD4/SEG4/SDO2 (io), 53 RD3/SEG3 (io), 54 RD2/SEG2 (io), 55 RD1/SEG1/T5CKI/T7G (io), 58 RD0/SEG0/CTPLS (io), 59 RE7/ECCP2/SEG31/P2A (io), 60 RE6/COM3/P1B/CCP6 (io), 61 RE5/COM2/P1C/CCP7 (io), 62 RE4/COM1/P3B/CCP8 (io), 63 RE3/COM0/P3C/REFO (io), 64 RE2/LCDBIAS3/P2B (io)
part B pins: 9 VSS (power) "Ground reference for logic and I/O pins.", 19 AVDD (power) "Ground reference for analog modules.", 20 AVSS (power) "Positive supply for analog modules.", 25 VSS (power) "Ground reference for logic and I/O pins.", 26 VDD (power) "Positive supply for logic and I/O pins.", 38 VDD (power) "Positive supply for logic and I/O pins.", 41 VSS (power) "Ground reference for logic and I/O pins.", 56 VSS (power) "Ground reference for logic and I/O pins.", 57 VDD (power) "Positive supply for logic and I/O pins."

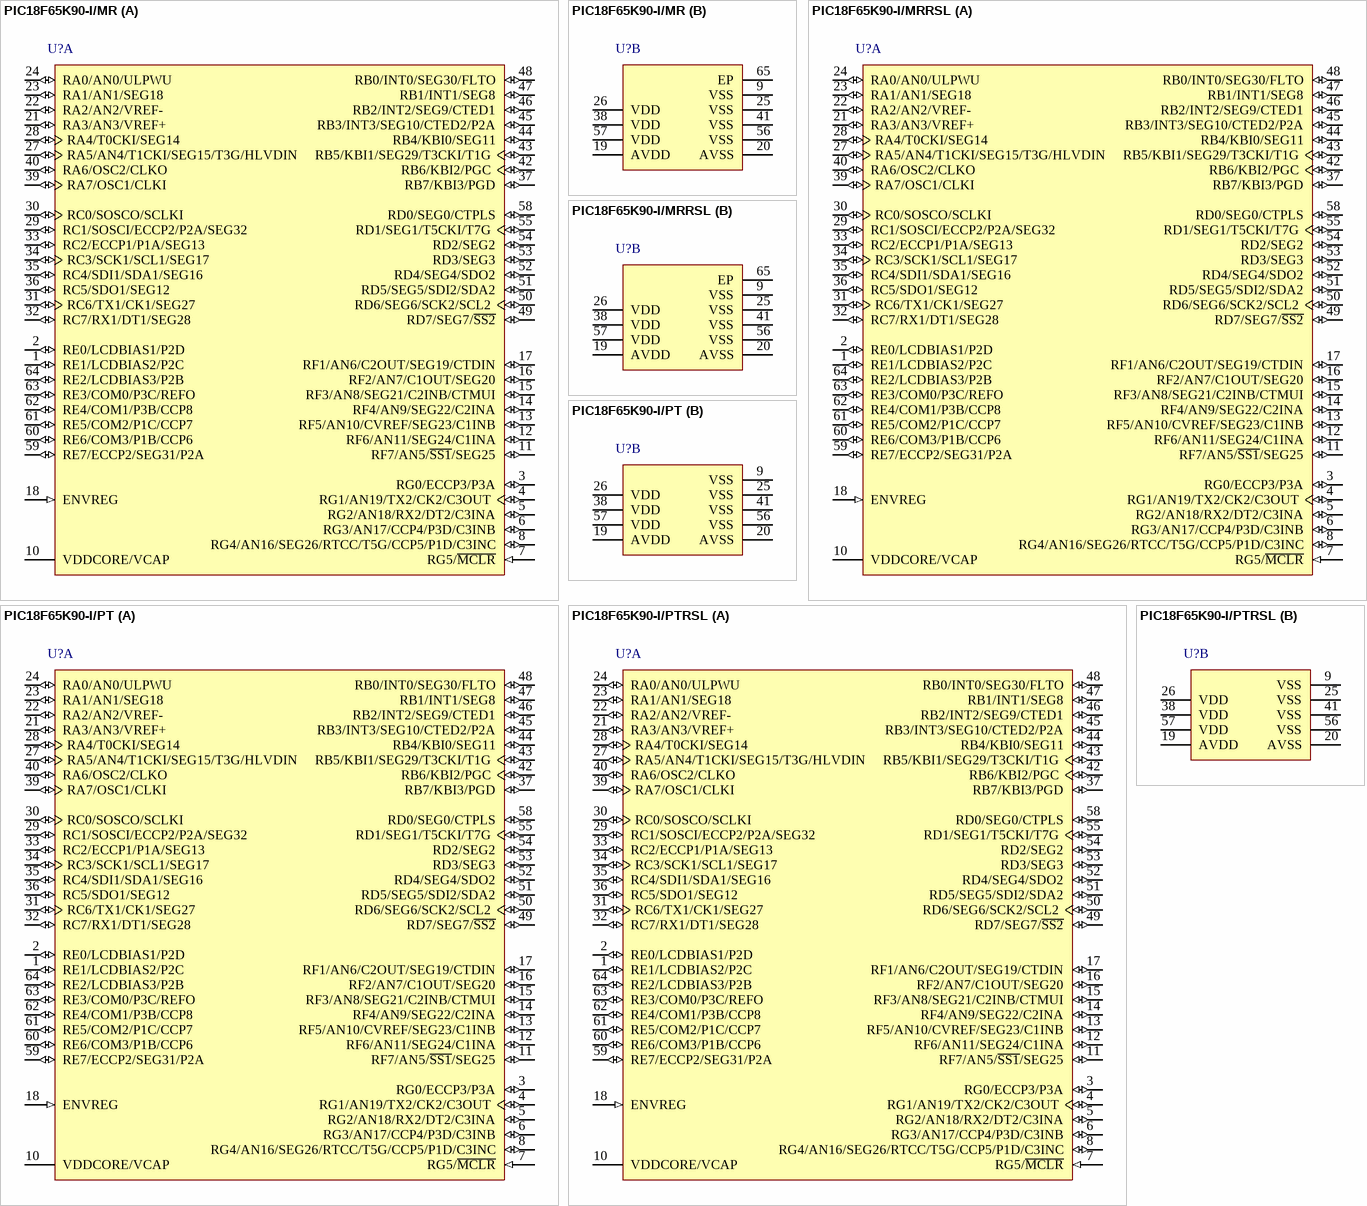
[diagram p47: symbols PIC18F65K90-I/MR to PIC18F65K90-I/PTRSL]

## PIC18F65K90-I/MR
designator U?
High-Performance Microcontroller with LCD Driver and nanoWatt XLP Technology, 64 MHz, 53 I/O, -40 to 85 degC, 64-pin QFN (MR64), Tube; Manufacturer: Microchip; PartNumber: PIC18F65K90-I/MR; # of A/D Channels: 16; Digital Communication: 0 -UART, 2 -A/E/USART, 2 -MSSP(SPI/I2C); EEPROM Data Memory (bytes): 1024; I/O Pins: 53; Internal Oscillator: 16 MHz, 31 kHz; Max. CPU Speed MHz: 64; Memory Type: Flash; Operation Voltage Range: 1.8V - 5.5V; Program Memory KBytes: 32; RAM: 2048; Timers: 4 - 8-bit, 4 - 16-bit; DatasheetVersion: Rev. D; PackageVersion: C04-149C, 12/2012; PackageReference: QFN-MR64; PackageDescription: 64-Lead Plastic Quad Flat, 9 x 9 mm Body, 0.5 mm Pitch; Supplier 1: Digi-Key; Supplier Part Number 1: PIC18F65K90-I/MR-ND; Supplier 2: Mouser; Supplier Part Number 2: 579-PIC18F65K90-I/MR; Packing: TUBE; Program Memory KWords: 16; RoHS: TRUE; Mounting Technology: Surface Mount; ComponentLink1Description: Datasheet; ComponentLink1URL: http://ww1.microchip.com/downloads/en/DeviceDoc/39957d.pdf; ComponentLink2Description: Package Specification; ComponentLink2URL: http://www.microchip.com/stellent/groups/techpub_sg/documents/packagingspec/en012702.pdf; ComponentLink3Description: URL Link1; ComponentLink3URL: Product URL:http://www.microchip.com/datasheet/PIC18F65K90
footprint MCHP-QFN-MR64-7275X7275TP_N (QFN, 64-Leads, Body 9x9mm, Pitch 0.5mm, Thermal Pad 7.275x7.275mm, IPC Medium Density)
footprint MCHP-QFN-MR64-7275X7275TP_L (QFN, 64-Leads, Body 9x9mm, Pitch 0.5mm, Thermal Pad 7.275x7.275mm, IPC High Density)
footprint MCHP-QFN-MR64-7275X7275TP_M (QFN, 64-Leads, Body 9x9mm, Pitch 0.5mm, Thermal Pad 7.275x7.275mm, IPC Low Density)
part A pins: 1 RE1/LCDBIAS2/P2C (io), 2 RE0/LCDBIAS1/P2D (io), 3 RG0/ECCP3/P3A (io), 4 RG1/AN19/TX2/CK2/C3OUT (io), 5 RG2/AN18/RX2/DT2/C3INA (io), 6 RG3/AN17/CCP4/P3D/C3INB (io), 7 RG5/~{MCLR} (in), 8 RG4/AN16/SEG26/RTCC/T5G/CCP5/P1D/C3INC (io), 10 VDDCORE/VCAP (power), 11 RF7/AN5/~{SS1}/SEG25 (io), 12 RF6/AN11/SEG24/C1INA (io), 13 RF5/AN10/CVREF/SEG23/C1INB (io), 14 RF4/AN9/SEG22/C2INA (io), 15 RF3/AN8/SEG21/C2INB/CTMUI (io), 16 RF2/AN7/C1OUT/SEG20 (io), 17 RF1/AN6/C2OUT/SEG19/CTDIN (io), 18 ENVREG (in) "Enable for on-chip voltage regulator.", 21 RA3/AN3/VREF+ (io), 22 RA2/AN2/VREF- (io), 23 RA1/AN1/SEG18 (io), 24 RA0/AN0/ULPWU (io), 27 RA5/AN4/T1CKI/SEG15/T3G/HLVDIN (io), 28 RA4/T0CKI/SEG14 (io), 29 RC1/SOSCI/ECCP2/P2A/SEG32 (io), 30 RC0/SOSCO/SCLKI (io), 31 RC6/TX1/CK1/SEG27 (io), 32 RC7/RX1/DT1/SEG28 (io), 33 RC2/ECCP1/P1A/SEG13 (io), 34 RC3/SCK1/SCL1/SEG17 (io), 35 RC4/SDI1/SDA1/SEG16 (io), 36 RC5/SDO1/SEG12 (io), 37 RB7/KBI3/PGD (io), 39 RA7/OSC1/CLKI (io), 40 RA6/OSC2/CLKO (io), 42 RB6/KBI2/PGC (io), 43 RB5/KBI1/SEG29/T3CKI/T1G (io), 44 RB4/KBI0/SEG11 (io), 45 RB3/INT3/SEG10/CTED2/P2A (io), 46 RB2/INT2/SEG9/CTED1 (io), 47 RB1/INT1/SEG8 (io), 48 RB0/INT0/SEG30/FLTO (io), 49 RD7/SEG7/~{SS2} (io), 50 RD6/SEG6/SCK2/SCL2 (io), 51 RD5/SEG5/SDI2/SDA2 (io), 52 RD4/SEG4/SDO2 (io), 53 RD3/SEG3 (io), 54 RD2/SEG2 (io), 55 RD1/SEG1/T5CKI/T7G (io), 58 RD0/SEG0/CTPLS (io), 59 RE7/ECCP2/SEG31/P2A (io), 60 RE6/COM3/P1B/CCP6 (io), 61 RE5/COM2/P1C/CCP7 (io), 62 RE4/COM1/P3B/CCP8 (io), 63 RE3/COM0/P3C/REFO (io), 64 RE2/LCDBIAS3/P2B (io)
part B pins: 9 VSS (power) "Ground reference for logic and I/O pins.", 19 AVDD (power) "Ground reference for analog modules.", 20 AVSS (power) "Positive supply for analog modules.", 25 VSS (power) "Ground reference for logic and I/O pins.", 26 VDD (power) "Positive supply for logic and I/O pins.", 38 VDD (power) "Positive supply for logic and I/O pins.", 41 VSS (power) "Ground reference for logic and I/O pins.", 56 VSS (power) "Ground reference for logic and I/O pins.", 57 VDD (power) "Positive supply for logic and I/O pins.", 65 EP (power)

## PIC18F65K90-I/MRRSL
designator U?
High-Performance Microcontroller with LCD Driver and nanoWatt XLP Technology, 64 MHz, 53 I/O, -40 to 85 degC, 64-pin QFN (MR64), Tube; Manufacturer: Microchip; PartNumber: PIC18F65K90-I/MRRSL; # of A/D Channels: 16; Digital Communication: 0 -UART, 2 -A/E/USART, 2 -MSSP(SPI/I2C); EEPROM Data Memory (bytes): 1024; I/O Pins: 53; Internal Oscillator: 16 MHz, 31 kHz; Max. CPU Speed MHz: 64; Memory Type: Flash; Operation Voltage Range: 1.8V - 5.5V; Program Memory KBytes: 32; RAM: 2048; Timers: 4 - 8-bit, 4 - 16-bit; DatasheetVersion: Rev. D; PackageVersion: C04-213A, 04/2013; PackageReference: QFN-MR64; PackageDescription: 64-Lead Plastic Quad Flat, No Lead Package, Body 9 x 9 mm, Pitch 0.5 mm; Supplier 1: Digi-Key; Supplier Part Number 1: PIC18F65K90-I/MRRSL-ND; Supplier 2: Farnell; Supplier Part Number 2: 1841472; Supplier 3: Newark; Supplier Part Number 3: 25R8334; Supplier 4: Mouser; Supplier Part Number 4: 579-PIC18F65K90IMRRS; Packing: TUBE; Program Memory KWords: 16; RoHS: TRUE; Mounting Technology: Surface Mount; ComponentLink1Description: Datasheet; ComponentLink1URL: http://ww1.microchip.com/downloads/en/DeviceDoc/39957d.pdf; ComponentLink2Description: Package Specification; ComponentLink2URL: http://www.microchip.com/stellent/groups/techpub_sg/documents/packagingspec/en012702.pdf; ComponentLink3Description: URL Link1; ComponentLink3URL: Product URL:http://www.microchip.com/datasheet/PIC18F65K90
footprint MCHP-QFN-MR64-7700X7700TP_N (QFN, 64-Leads, Body 9x9mm, Pitch 0.5mm, Thermal Pad 7.7x7.7mm, IPC Medium Density)
footprint MCHP-QFN-MR64-7700X7700TP_L (QFN, 64-Leads, Body 9x9mm, Pitch 0.5mm, Thermal Pad 7.7x7.7mm, IPC High Density)
footprint MCHP-QFN-MR64-7700X7700TP_M (QFN, 64-Leads, Body 9x9mm, Pitch 0.5mm, Thermal Pad 7.7x7.7mm, IPC Low Density)
part A pins: 1 RE1/LCDBIAS2/P2C (io), 2 RE0/LCDBIAS1/P2D (io), 3 RG0/ECCP3/P3A (io), 4 RG1/AN19/TX2/CK2/C3OUT (io), 5 RG2/AN18/RX2/DT2/C3INA (io), 6 RG3/AN17/CCP4/P3D/C3INB (io), 7 RG5/~{MCLR} (in), 8 RG4/AN16/SEG26/RTCC/T5G/CCP5/P1D/C3INC (io), 10 VDDCORE/VCAP (power), 11 RF7/AN5/~{SS1}/SEG25 (io), 12 RF6/AN11/SEG24/C1INA (io), 13 RF5/AN10/CVREF/SEG23/C1INB (io), 14 RF4/AN9/SEG22/C2INA (io), 15 RF3/AN8/SEG21/C2INB/CTMUI (io), 16 RF2/AN7/C1OUT/SEG20 (io), 17 RF1/AN6/C2OUT/SEG19/CTDIN (io), 18 ENVREG (in) "Enable for on-chip voltage regulator.", 21 RA3/AN3/VREF+ (io), 22 RA2/AN2/VREF- (io), 23 RA1/AN1/SEG18 (io), 24 RA0/AN0/ULPWU (io), 27 RA5/AN4/T1CKI/SEG15/T3G/HLVDIN (io), 28 RA4/T0CKI/SEG14 (io), 29 RC1/SOSCI/ECCP2/P2A/SEG32 (io), 30 RC0/SOSCO/SCLKI (io), 31 RC6/TX1/CK1/SEG27 (io), 32 RC7/RX1/DT1/SEG28 (io), 33 RC2/ECCP1/P1A/SEG13 (io), 34 RC3/SCK1/SCL1/SEG17 (io), 35 RC4/SDI1/SDA1/SEG16 (io), 36 RC5/SDO1/SEG12 (io), 37 RB7/KBI3/PGD (io), 39 RA7/OSC1/CLKI (io), 40 RA6/OSC2/CLKO (io), 42 RB6/KBI2/PGC (io), 43 RB5/KBI1/SEG29/T3CKI/T1G (io), 44 RB4/KBI0/SEG11 (io), 45 RB3/INT3/SEG10/CTED2/P2A (io), 46 RB2/INT2/SEG9/CTED1 (io), 47 RB1/INT1/SEG8 (io), 48 RB0/INT0/SEG30/FLTO (io), 49 RD7/SEG7/~{SS2} (io), 50 RD6/SEG6/SCK2/SCL2 (io), 51 RD5/SEG5/SDI2/SDA2 (io), 52 RD4/SEG4/SDO2 (io), 53 RD3/SEG3 (io), 54 RD2/SEG2 (io), 55 RD1/SEG1/T5CKI/T7G (io), 58 RD0/SEG0/CTPLS (io), 59 RE7/ECCP2/SEG31/P2A (io), 60 RE6/COM3/P1B/CCP6 (io), 61 RE5/COM2/P1C/CCP7 (io), 62 RE4/COM1/P3B/CCP8 (io), 63 RE3/COM0/P3C/REFO (io), 64 RE2/LCDBIAS3/P2B (io)
part B pins: 9 VSS (power) "Ground reference for logic and I/O pins.", 19 AVDD (power) "Ground reference for analog modules.", 20 AVSS (power) "Positive supply for analog modules.", 25 VSS (power) "Ground reference for logic and I/O pins.", 26 VDD (power) "Positive supply for logic and I/O pins.", 38 VDD (power) "Positive supply for logic and I/O pins.", 41 VSS (power) "Ground reference for logic and I/O pins.", 56 VSS (power) "Ground reference for logic and I/O pins.", 57 VDD (power) "Positive supply for logic and I/O pins.", 65 EP (power)

## PIC18F65K90-I/PT
designator U?
High-Performance Microcontroller with LCD Driver and nanoWatt XLP Technology, 64 MHz, 53 I/O, -40 to 85 degC, 64-pin TQFP (PT64), Tray; Manufacturer: Microchip; PartNumber: PIC18F65K90-I/PT; # of A/D Channels: 16; Digital Communication: 0 -UART, 2 -A/E/USART, 2 -MSSP(SPI/I2C); EEPROM Data Memory (bytes): 1024; I/O Pins: 53; Internal Oscillator: 16 MHz, 31 kHz; Max. CPU Speed MHz: 64; Memory Type: Flash; Operation Voltage Range: 1.8V - 5.5V; Program Memory KBytes: 32; RAM: 2048; Timers: 4 - 8-bit, 4 - 16-bit; DatasheetVersion: Rev. D; PackageVersion: C04-085B, 12/2012; PackageReference: TQFP-PT64; PackageDescription: 64-Lead Plastic Thin Quad FlatPack, 10 x 10 mm Body, 0.5 mm Pitch; Supplier 1: Digi-Key; Supplier Part Number 1: PIC18F65K90-I/PT-ND; Supplier 2: Mouser; Supplier Part Number 2: 579-PIC18F65K90-I/PT; Packing: TRAY; Program Memory KWords: 16; RoHS: TRUE; Mounting Technology: Surface Mount; ComponentLink1Description: Datasheet; ComponentLink1URL: http://ww1.microchip.com/downloads/en/DeviceDoc/39957d.pdf; ComponentLink2Description: Package Specification; ComponentLink2URL: http://www.microchip.com/stellent/groups/techpub_sg/documents/packagingspec/en012702.pdf; ComponentLink3Description: URL Link1; ComponentLink3URL: Product URL:http://www.microchip.com/datasheet/PIC18F65K90
footprint MCHP-TQFP-PT64_N (TQFP, 64-Leads, Body 10x10mm, Pitch 0.5mm, IPC Medium Density)
footprint MCHP-TQFP-PT64_L (TQFP, 64-Leads, Body 10x10mm, Pitch 0.5mm, IPC High Density)
footprint MCHP-TQFP-PT64_M (TQFP, 64-Leads, Body 10x10mm, Pitch 0.5mm, IPC Low Density)
part A pins: 1 RE1/LCDBIAS2/P2C (io), 2 RE0/LCDBIAS1/P2D (io), 3 RG0/ECCP3/P3A (io), 4 RG1/AN19/TX2/CK2/C3OUT (io), 5 RG2/AN18/RX2/DT2/C3INA (io), 6 RG3/AN17/CCP4/P3D/C3INB (io), 7 RG5/~{MCLR} (in), 8 RG4/AN16/SEG26/RTCC/T5G/CCP5/P1D/C3INC (io), 10 VDDCORE/VCAP (power), 11 RF7/AN5/~{SS1}/SEG25 (io), 12 RF6/AN11/SEG24/C1INA (io), 13 RF5/AN10/CVREF/SEG23/C1INB (io), 14 RF4/AN9/SEG22/C2INA (io), 15 RF3/AN8/SEG21/C2INB/CTMUI (io), 16 RF2/AN7/C1OUT/SEG20 (io), 17 RF1/AN6/C2OUT/SEG19/CTDIN (io), 18 ENVREG (in) "Enable for on-chip voltage regulator.", 21 RA3/AN3/VREF+ (io), 22 RA2/AN2/VREF- (io), 23 RA1/AN1/SEG18 (io), 24 RA0/AN0/ULPWU (io), 27 RA5/AN4/T1CKI/SEG15/T3G/HLVDIN (io), 28 RA4/T0CKI/SEG14 (io), 29 RC1/SOSCI/ECCP2/P2A/SEG32 (io), 30 RC0/SOSCO/SCLKI (io), 31 RC6/TX1/CK1/SEG27 (io), 32 RC7/RX1/DT1/SEG28 (io), 33 RC2/ECCP1/P1A/SEG13 (io), 34 RC3/SCK1/SCL1/SEG17 (io), 35 RC4/SDI1/SDA1/SEG16 (io), 36 RC5/SDO1/SEG12 (io), 37 RB7/KBI3/PGD (io), 39 RA7/OSC1/CLKI (io), 40 RA6/OSC2/CLKO (io), 42 RB6/KBI2/PGC (io), 43 RB5/KBI1/SEG29/T3CKI/T1G (io), 44 RB4/KBI0/SEG11 (io), 45 RB3/INT3/SEG10/CTED2/P2A (io), 46 RB2/INT2/SEG9/CTED1 (io), 47 RB1/INT1/SEG8 (io), 48 RB0/INT0/SEG30/FLTO (io), 49 RD7/SEG7/~{SS2} (io), 50 RD6/SEG6/SCK2/SCL2 (io), 51 RD5/SEG5/SDI2/SDA2 (io), 52 RD4/SEG4/SDO2 (io), 53 RD3/SEG3 (io), 54 RD2/SEG2 (io), 55 RD1/SEG1/T5CKI/T7G (io), 58 RD0/SEG0/CTPLS (io), 59 RE7/ECCP2/SEG31/P2A (io), 60 RE6/COM3/P1B/CCP6 (io), 61 RE5/COM2/P1C/CCP7 (io), 62 RE4/COM1/P3B/CCP8 (io), 63 RE3/COM0/P3C/REFO (io), 64 RE2/LCDBIAS3/P2B (io)
part B pins: 9 VSS (power) "Ground reference for logic and I/O pins.", 19 AVDD (power) "Ground reference for analog modules.", 20 AVSS (power) "Positive supply for analog modules.", 25 VSS (power) "Ground reference for logic and I/O pins.", 26 VDD (power) "Positive supply for logic and I/O pins.", 38 VDD (power) "Positive supply for logic and I/O pins.", 41 VSS (power) "Ground reference for logic and I/O pins.", 56 VSS (power) "Ground reference for logic and I/O pins.", 57 VDD (power) "Positive supply for logic and I/O pins."

## PIC18F65K90-I/PTRSL
designator U?
High-Performance Microcontroller with LCD Driver and nanoWatt XLP Technology, 64 MHz, 53 I/O, -40 to 85 degC, 64-pin TQFP (PT64), Tray; Manufacturer: Microchip; PartNumber: PIC18F65K90-I/PTRSL; # of A/D Channels: 16; Digital Communication: 0 -UART, 2 -A/E/USART, 2 -MSSP(SPI/I2C); EEPROM Data Memory (bytes): 1024; I/O Pins: 53; Internal Oscillator: 16 MHz, 31 kHz; Max. CPU Speed MHz: 64; Memory Type: Flash; Operation Voltage Range: 1.8V - 5.5V; Program Memory KBytes: 32; RAM: 2048; Timers: 4 - 8-bit, 4 - 16-bit; DatasheetVersion: Rev. D; PackageVersion: C04-085B, 12/2012; PackageReference: TQFP-PT64; PackageDescription: 64-Lead Plastic Thin Quad FlatPack, 10 x 10 mm Body, 0.5 mm Pitch; Supplier 1: Digi-Key; Supplier Part Number 1: PIC18F65K90-I/PTRSL-ND; Supplier 2: Farnell; Supplier Part Number 2: 1829839; Supplier 3: Farnell; Supplier Part Number 3: 1829839MPKG; Supplier 4: Newark; Supplier Part Number 4: 25R8335; Supplier 5: Mouser; Supplier Part Number 5: 579-PIC18F65K90IPTRS; Packing: TRAY; Program Memory KWords: 16; RoHS: TRUE; Mounting Technology: Surface Mount; ComponentLink1Description: Datasheet; ComponentLink1URL: http://ww1.microchip.com/downloads/en/DeviceDoc/39957d.pdf; ComponentLink2Description: Package Specification; ComponentLink2URL: http://www.microchip.com/stellent/groups/techpub_sg/documents/packagingspec/en012702.pdf; ComponentLink3Description: URL Link1; ComponentLink3URL: Product URL:http://www.microchip.com/datasheet/PIC18F65K90
footprint MCHP-TQFP-PT64_N (TQFP, 64-Leads, Body 10x10mm, Pitch 0.5mm, IPC Medium Density)
footprint MCHP-TQFP-PT64_L (TQFP, 64-Leads, Body 10x10mm, Pitch 0.5mm, IPC High Density)
footprint MCHP-TQFP-PT64_M (TQFP, 64-Leads, Body 10x10mm, Pitch 0.5mm, IPC Low Density)
part A pins: 1 RE1/LCDBIAS2/P2C (io), 2 RE0/LCDBIAS1/P2D (io), 3 RG0/ECCP3/P3A (io), 4 RG1/AN19/TX2/CK2/C3OUT (io), 5 RG2/AN18/RX2/DT2/C3INA (io), 6 RG3/AN17/CCP4/P3D/C3INB (io), 7 RG5/~{MCLR} (in), 8 RG4/AN16/SEG26/RTCC/T5G/CCP5/P1D/C3INC (io), 10 VDDCORE/VCAP (power), 11 RF7/AN5/~{SS1}/SEG25 (io), 12 RF6/AN11/SEG24/C1INA (io), 13 RF5/AN10/CVREF/SEG23/C1INB (io), 14 RF4/AN9/SEG22/C2INA (io), 15 RF3/AN8/SEG21/C2INB/CTMUI (io), 16 RF2/AN7/C1OUT/SEG20 (io), 17 RF1/AN6/C2OUT/SEG19/CTDIN (io), 18 ENVREG (in) "Enable for on-chip voltage regulator.", 21 RA3/AN3/VREF+ (io), 22 RA2/AN2/VREF- (io), 23 RA1/AN1/SEG18 (io), 24 RA0/AN0/ULPWU (io), 27 RA5/AN4/T1CKI/SEG15/T3G/HLVDIN (io), 28 RA4/T0CKI/SEG14 (io), 29 RC1/SOSCI/ECCP2/P2A/SEG32 (io), 30 RC0/SOSCO/SCLKI (io), 31 RC6/TX1/CK1/SEG27 (io), 32 RC7/RX1/DT1/SEG28 (io), 33 RC2/ECCP1/P1A/SEG13 (io), 34 RC3/SCK1/SCL1/SEG17 (io), 35 RC4/SDI1/SDA1/SEG16 (io), 36 RC5/SDO1/SEG12 (io), 37 RB7/KBI3/PGD (io), 39 RA7/OSC1/CLKI (io), 40 RA6/OSC2/CLKO (io), 42 RB6/KBI2/PGC (io), 43 RB5/KBI1/SEG29/T3CKI/T1G (io), 44 RB4/KBI0/SEG11 (io), 45 RB3/INT3/SEG10/CTED2/P2A (io), 46 RB2/INT2/SEG9/CTED1 (io), 47 RB1/INT1/SEG8 (io), 48 RB0/INT0/SEG30/FLTO (io), 49 RD7/SEG7/~{SS2} (io), 50 RD6/SEG6/SCK2/SCL2 (io), 51 RD5/SEG5/SDI2/SDA2 (io), 52 RD4/SEG4/SDO2 (io), 53 RD3/SEG3 (io), 54 RD2/SEG2 (io), 55 RD1/SEG1/T5CKI/T7G (io), 58 RD0/SEG0/CTPLS (io), 59 RE7/ECCP2/SEG31/P2A (io), 60 RE6/COM3/P1B/CCP6 (io), 61 RE5/COM2/P1C/CCP7 (io), 62 RE4/COM1/P3B/CCP8 (io), 63 RE3/COM0/P3C/REFO (io), 64 RE2/LCDBIAS3/P2B (io)
part B pins: 9 VSS (power) "Ground reference for logic and I/O pins.", 19 AVDD (power) "Ground reference for analog modules.", 20 AVSS (power) "Positive supply for analog modules.", 25 VSS (power) "Ground reference for logic and I/O pins.", 26 VDD (power) "Positive supply for logic and I/O pins.", 38 VDD (power) "Positive supply for logic and I/O pins.", 41 VSS (power) "Ground reference for logic and I/O pins.", 56 VSS (power) "Ground reference for logic and I/O pins.", 57 VDD (power) "Positive supply for logic and I/O pins."

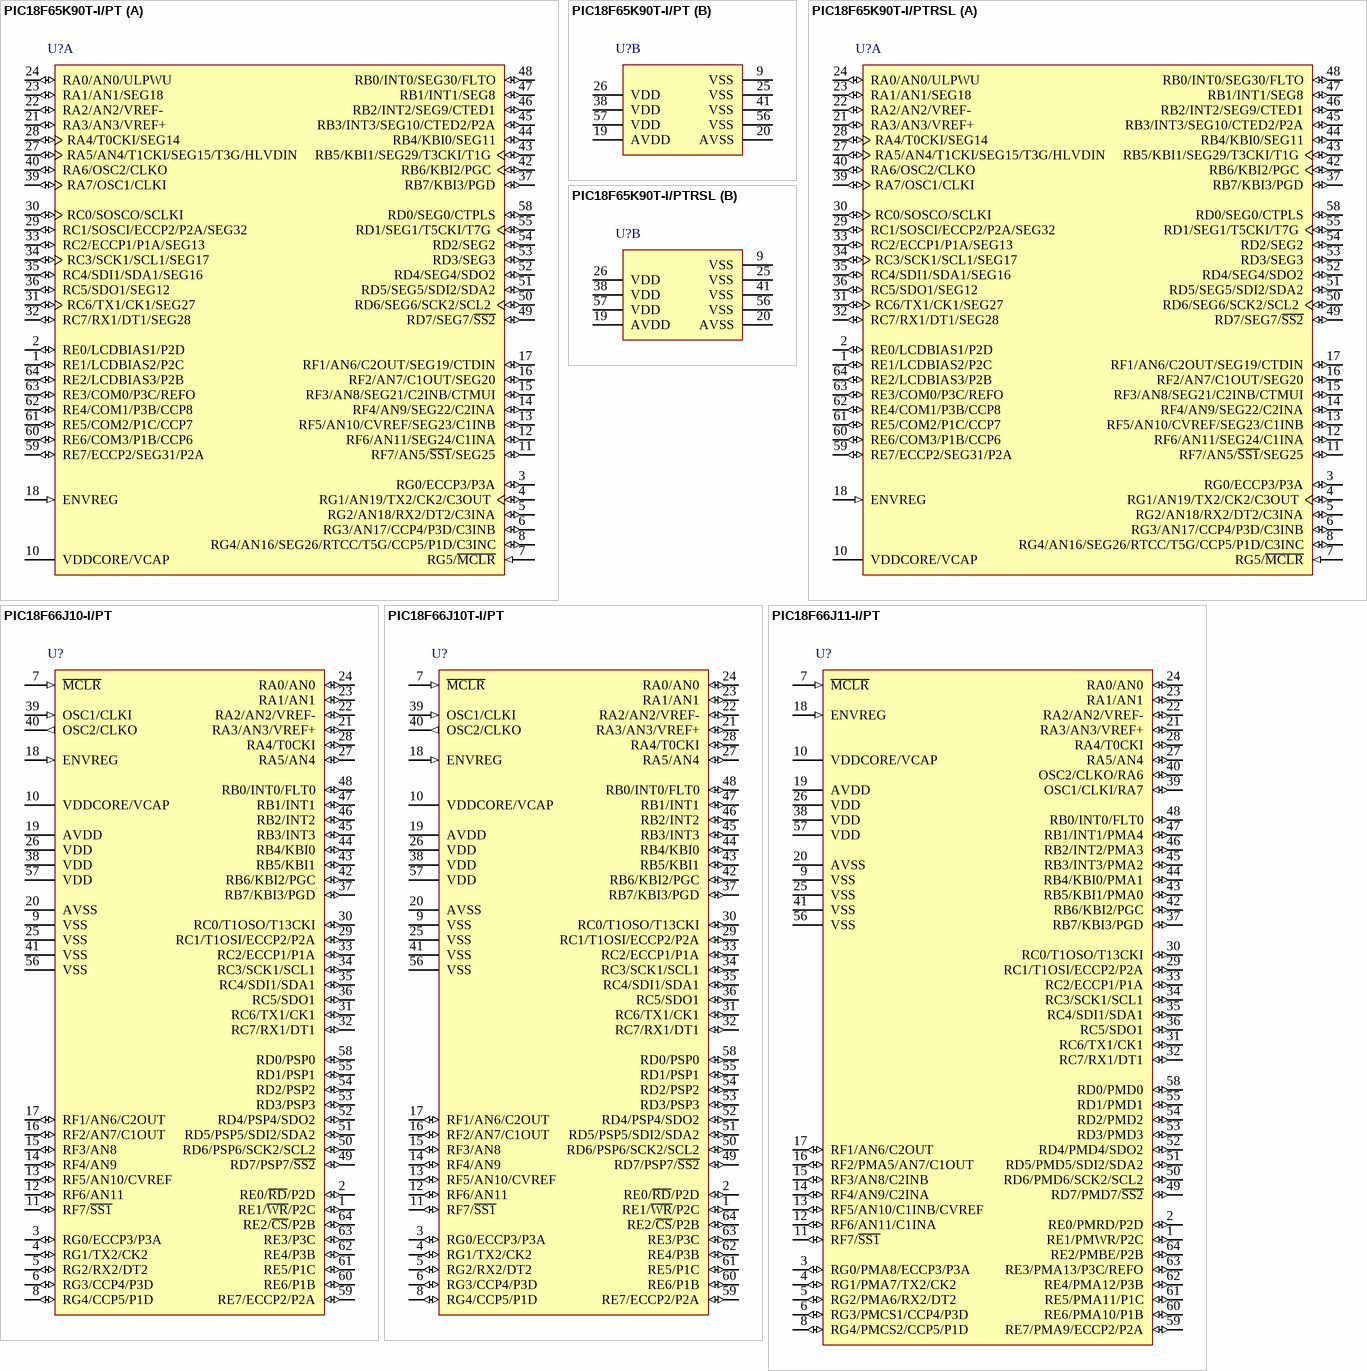
[diagram p48: symbols PIC18F65K90T-I/PT to PIC18F66J11-I/PT]

## PIC18F65K90T-I/PT
designator U?
High-Performance Microcontroller with LCD Driver and nanoWatt XLP Technology, 64 MHz, 53 I/O, -40 to 85 degC, 64-pin TQFP (PT64), Tape and Reel; Manufacturer: Microchip; PartNumber: PIC18F65K90T-I/PT; # of A/D Channels: 16; Digital Communication: 0 -UART, 2 -A/E/USART, 2 -MSSP(SPI/I2C); EEPROM Data Memory (bytes): 1024; I/O Pins: 53; Internal Oscillator: 16 MHz, 31 kHz; Max. CPU Speed MHz: 64; Memory Type: Flash; Operation Voltage Range: 1.8V - 5.5V; Packing: T/R; Program Memory KBytes: 32; RAM: 2048; Timers: 4 - 8-bit, 4 - 16-bit; DatasheetVersion: Rev. D; PackageVersion: C04-085B, 12/2012; PackageReference: TQFP-PT64; PackageDescription: 64-Lead Plastic Thin Quad FlatPack, 10 x 10 mm Body, 0.5 mm Pitch; Supplier 1: Digi-Key; Supplier Part Number 1: PIC18F65K90T-I/PT-ND; Supplier 2: Mouser; Supplier Part Number 2: 579-PIC18F65K90TI/PT; Program Memory KWords: 16; RoHS: TRUE; Mounting Technology: Surface Mount; ComponentLink1Description: Datasheet; ComponentLink1URL: http://ww1.microchip.com/downloads/en/DeviceDoc/39957d.pdf; ComponentLink2Description: Package Specification; ComponentLink2URL: http://www.microchip.com/stellent/groups/techpub_sg/documents/packagingspec/en012702.pdf; ComponentLink3Description: URL Link1; ComponentLink3URL: Product URL:http://www.microchip.com/datasheet/PIC18F65K90
footprint MCHP-TQFP-PT64_N (TQFP, 64-Leads, Body 10x10mm, Pitch 0.5mm, IPC Medium Density)
footprint MCHP-TQFP-PT64_L (TQFP, 64-Leads, Body 10x10mm, Pitch 0.5mm, IPC High Density)
footprint MCHP-TQFP-PT64_M (TQFP, 64-Leads, Body 10x10mm, Pitch 0.5mm, IPC Low Density)
part A pins: 1 RE1/LCDBIAS2/P2C (io), 2 RE0/LCDBIAS1/P2D (io), 3 RG0/ECCP3/P3A (io), 4 RG1/AN19/TX2/CK2/C3OUT (io), 5 RG2/AN18/RX2/DT2/C3INA (io), 6 RG3/AN17/CCP4/P3D/C3INB (io), 7 RG5/~{MCLR} (in), 8 RG4/AN16/SEG26/RTCC/T5G/CCP5/P1D/C3INC (io), 10 VDDCORE/VCAP (power), 11 RF7/AN5/~{SS1}/SEG25 (io), 12 RF6/AN11/SEG24/C1INA (io), 13 RF5/AN10/CVREF/SEG23/C1INB (io), 14 RF4/AN9/SEG22/C2INA (io), 15 RF3/AN8/SEG21/C2INB/CTMUI (io), 16 RF2/AN7/C1OUT/SEG20 (io), 17 RF1/AN6/C2OUT/SEG19/CTDIN (io), 18 ENVREG (in) "Enable for on-chip voltage regulator.", 21 RA3/AN3/VREF+ (io), 22 RA2/AN2/VREF- (io), 23 RA1/AN1/SEG18 (io), 24 RA0/AN0/ULPWU (io), 27 RA5/AN4/T1CKI/SEG15/T3G/HLVDIN (io), 28 RA4/T0CKI/SEG14 (io), 29 RC1/SOSCI/ECCP2/P2A/SEG32 (io), 30 RC0/SOSCO/SCLKI (io), 31 RC6/TX1/CK1/SEG27 (io), 32 RC7/RX1/DT1/SEG28 (io), 33 RC2/ECCP1/P1A/SEG13 (io), 34 RC3/SCK1/SCL1/SEG17 (io), 35 RC4/SDI1/SDA1/SEG16 (io), 36 RC5/SDO1/SEG12 (io), 37 RB7/KBI3/PGD (io), 39 RA7/OSC1/CLKI (io), 40 RA6/OSC2/CLKO (io), 42 RB6/KBI2/PGC (io), 43 RB5/KBI1/SEG29/T3CKI/T1G (io), 44 RB4/KBI0/SEG11 (io), 45 RB3/INT3/SEG10/CTED2/P2A (io), 46 RB2/INT2/SEG9/CTED1 (io), 47 RB1/INT1/SEG8 (io), 48 RB0/INT0/SEG30/FLTO (io), 49 RD7/SEG7/~{SS2} (io), 50 RD6/SEG6/SCK2/SCL2 (io), 51 RD5/SEG5/SDI2/SDA2 (io), 52 RD4/SEG4/SDO2 (io), 53 RD3/SEG3 (io), 54 RD2/SEG2 (io), 55 RD1/SEG1/T5CKI/T7G (io), 58 RD0/SEG0/CTPLS (io), 59 RE7/ECCP2/SEG31/P2A (io), 60 RE6/COM3/P1B/CCP6 (io), 61 RE5/COM2/P1C/CCP7 (io), 62 RE4/COM1/P3B/CCP8 (io), 63 RE3/COM0/P3C/REFO (io), 64 RE2/LCDBIAS3/P2B (io)
part B pins: 9 VSS (power) "Ground reference for logic and I/O pins.", 19 AVDD (power) "Ground reference for analog modules.", 20 AVSS (power) "Positive supply for analog modules.", 25 VSS (power) "Ground reference for logic and I/O pins.", 26 VDD (power) "Positive supply for logic and I/O pins.", 38 VDD (power) "Positive supply for logic and I/O pins.", 41 VSS (power) "Ground reference for logic and I/O pins.", 56 VSS (power) "Ground reference for logic and I/O pins.", 57 VDD (power) "Positive supply for logic and I/O pins."

## PIC18F65K90T-I/PTRSL
designator U?
High-Performance Microcontroller with LCD Driver and nanoWatt XLP Technology, 64 MHz, 53 I/O, -40 to 85 degC, 64-pin TQFP (PT64), Tape and Reel; Manufacturer: Microchip; PartNumber: PIC18F65K90T-I/PTRSL; # of A/D Channels: 16; Digital Communication: 0 -UART, 2 -A/E/USART, 2 -MSSP(SPI/I2C); EEPROM Data Memory (bytes): 1024; I/O Pins: 53; Internal Oscillator: 16 MHz, 31 kHz; Max. CPU Speed MHz: 64; Memory Type: Flash; Operation Voltage Range: 1.8V - 5.5V; Packing: T/R; Program Memory KBytes: 32; RAM: 2048; Timers: 4 - 8-bit, 4 - 16-bit; DatasheetVersion: Rev. D; PackageVersion: C04-085B, 12/2012; PackageReference: TQFP-PT64; PackageDescription: 64-Lead Plastic Thin Quad FlatPack, 10 x 10 mm Body, 0.5 mm Pitch; Supplier 1: Digi-Key; Supplier Part Number 1: PIC18F65K90T-I/PTRSL-ND; Supplier 2: Mouser; Supplier Part Number 2: 579-PIC18F65K90TIPTR; Program Memory KWords: 16; RoHS: TRUE; Mounting Technology: Surface Mount; ComponentLink1Description: Datasheet; ComponentLink1URL: http://ww1.microchip.com/downloads/en/DeviceDoc/39957d.pdf; ComponentLink2Description: Package Specification; ComponentLink2URL: http://www.microchip.com/stellent/groups/techpub_sg/documents/packagingspec/en012702.pdf; ComponentLink3Description: URL Link1; ComponentLink3URL: Product URL:http://www.microchip.com/datasheet/PIC18F65K90
footprint MCHP-TQFP-PT64_N (TQFP, 64-Leads, Body 10x10mm, Pitch 0.5mm, IPC Medium Density)
footprint MCHP-TQFP-PT64_L (TQFP, 64-Leads, Body 10x10mm, Pitch 0.5mm, IPC High Density)
footprint MCHP-TQFP-PT64_M (TQFP, 64-Leads, Body 10x10mm, Pitch 0.5mm, IPC Low Density)
part A pins: 1 RE1/LCDBIAS2/P2C (io), 2 RE0/LCDBIAS1/P2D (io), 3 RG0/ECCP3/P3A (io), 4 RG1/AN19/TX2/CK2/C3OUT (io), 5 RG2/AN18/RX2/DT2/C3INA (io), 6 RG3/AN17/CCP4/P3D/C3INB (io), 7 RG5/~{MCLR} (in), 8 RG4/AN16/SEG26/RTCC/T5G/CCP5/P1D/C3INC (io), 10 VDDCORE/VCAP (power), 11 RF7/AN5/~{SS1}/SEG25 (io), 12 RF6/AN11/SEG24/C1INA (io), 13 RF5/AN10/CVREF/SEG23/C1INB (io), 14 RF4/AN9/SEG22/C2INA (io), 15 RF3/AN8/SEG21/C2INB/CTMUI (io), 16 RF2/AN7/C1OUT/SEG20 (io), 17 RF1/AN6/C2OUT/SEG19/CTDIN (io), 18 ENVREG (in) "Enable for on-chip voltage regulator.", 21 RA3/AN3/VREF+ (io), 22 RA2/AN2/VREF- (io), 23 RA1/AN1/SEG18 (io), 24 RA0/AN0/ULPWU (io), 27 RA5/AN4/T1CKI/SEG15/T3G/HLVDIN (io), 28 RA4/T0CKI/SEG14 (io), 29 RC1/SOSCI/ECCP2/P2A/SEG32 (io), 30 RC0/SOSCO/SCLKI (io), 31 RC6/TX1/CK1/SEG27 (io), 32 RC7/RX1/DT1/SEG28 (io), 33 RC2/ECCP1/P1A/SEG13 (io), 34 RC3/SCK1/SCL1/SEG17 (io), 35 RC4/SDI1/SDA1/SEG16 (io), 36 RC5/SDO1/SEG12 (io), 37 RB7/KBI3/PGD (io), 39 RA7/OSC1/CLKI (io), 40 RA6/OSC2/CLKO (io), 42 RB6/KBI2/PGC (io), 43 RB5/KBI1/SEG29/T3CKI/T1G (io), 44 RB4/KBI0/SEG11 (io), 45 RB3/INT3/SEG10/CTED2/P2A (io), 46 RB2/INT2/SEG9/CTED1 (io), 47 RB1/INT1/SEG8 (io), 48 RB0/INT0/SEG30/FLTO (io), 49 RD7/SEG7/~{SS2} (io), 50 RD6/SEG6/SCK2/SCL2 (io), 51 RD5/SEG5/SDI2/SDA2 (io), 52 RD4/SEG4/SDO2 (io), 53 RD3/SEG3 (io), 54 RD2/SEG2 (io), 55 RD1/SEG1/T5CKI/T7G (io), 58 RD0/SEG0/CTPLS (io), 59 RE7/ECCP2/SEG31/P2A (io), 60 RE6/COM3/P1B/CCP6 (io), 61 RE5/COM2/P1C/CCP7 (io), 62 RE4/COM1/P3B/CCP8 (io), 63 RE3/COM0/P3C/REFO (io), 64 RE2/LCDBIAS3/P2B (io)
part B pins: 9 VSS (power) "Ground reference for logic and I/O pins.", 19 AVDD (power) "Ground reference for analog modules.", 20 AVSS (power) "Positive supply for analog modules.", 25 VSS (power) "Ground reference for logic and I/O pins.", 26 VDD (power) "Positive supply for logic and I/O pins.", 38 VDD (power) "Positive supply for logic and I/O pins.", 41 VSS (power) "Ground reference for logic and I/O pins.", 56 VSS (power) "Ground reference for logic and I/O pins.", 57 VDD (power) "Positive supply for logic and I/O pins."